# Altium footprint library Motorola Footprints.PcbLib: 408 footprints (part 26 of 26)
Each footprint in its own frame and in the unit in brackets; x right, y up, seen from the top. Pads: shape width x height; smd on the part's side, far side on the other; paste and mask are expansions set on the pad; w line width, h text height; cw(c..) or ccw(c..) is an arc to the next point about the centre after c.
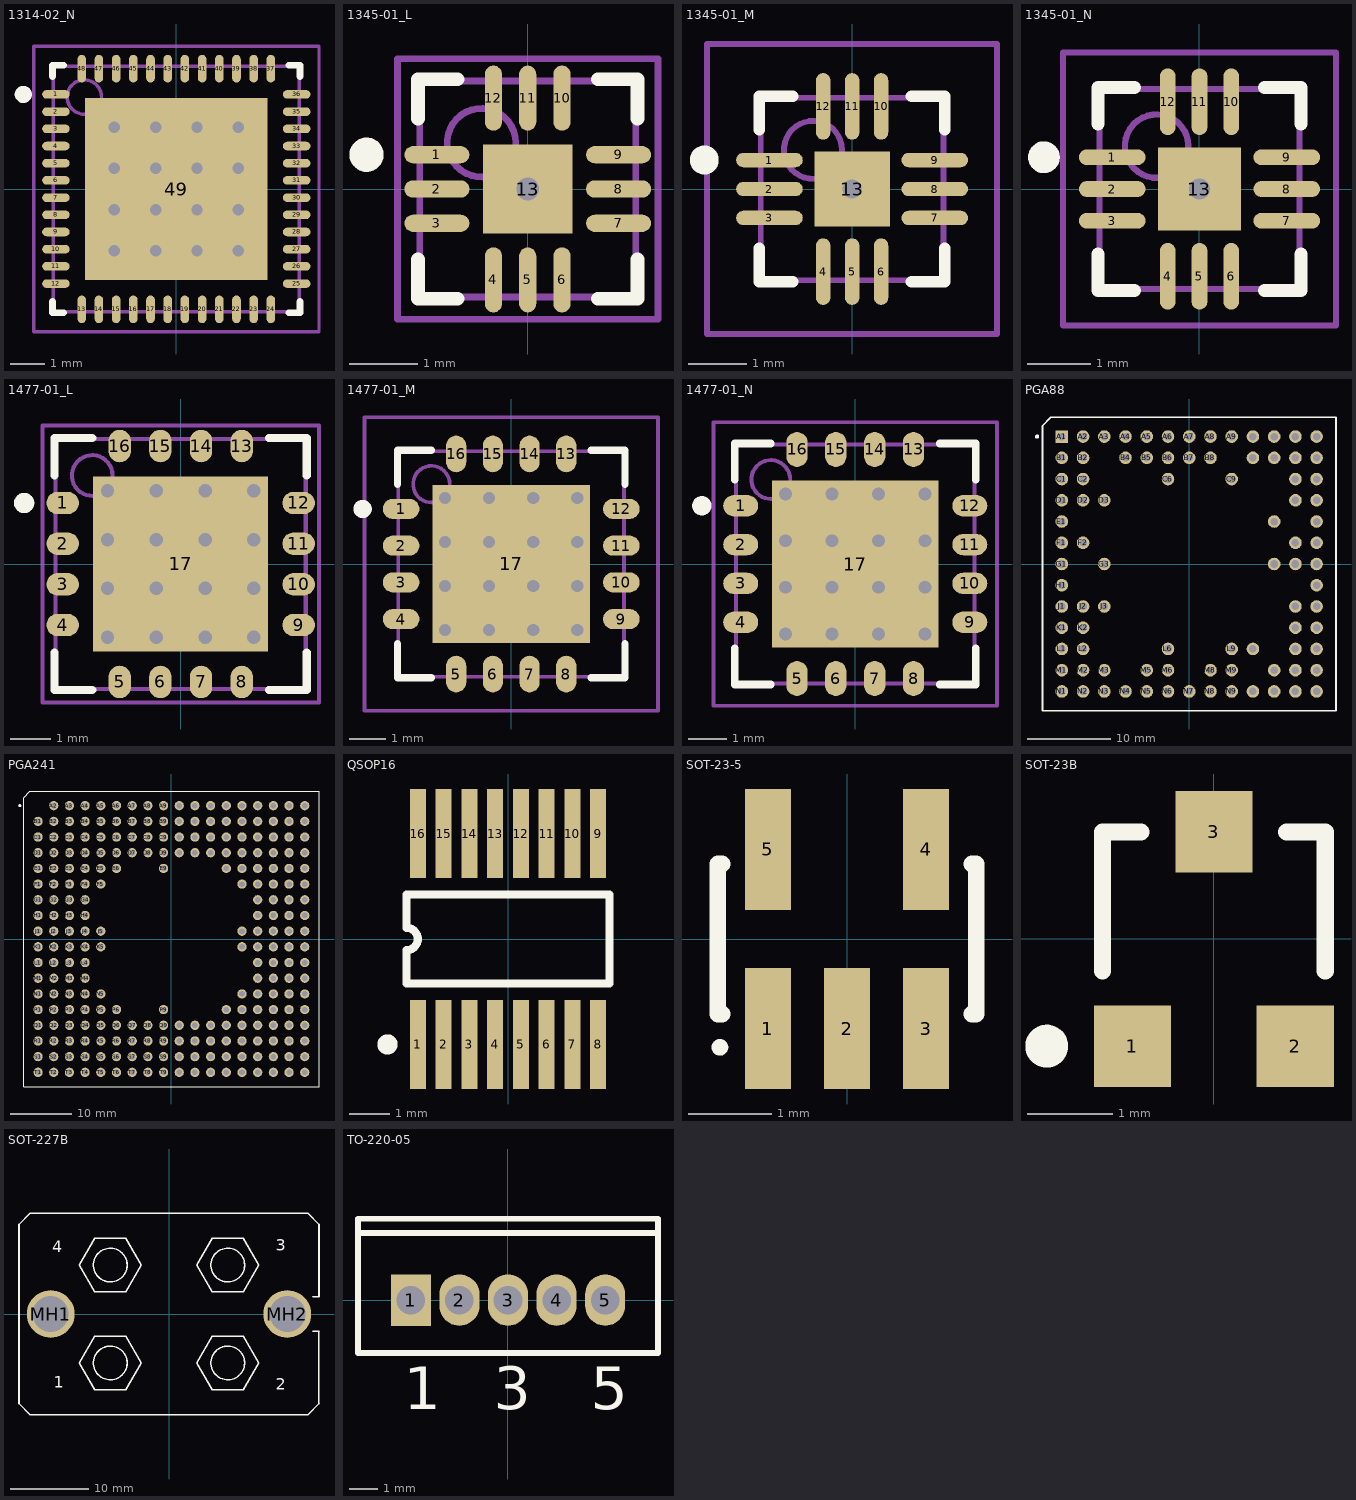
[diagram p25: the footprints below, top view; thin cyan lines are the x and y axes]

## 1314-02_N [mm] "48-Pin Quad Flat No-Lead 0.5 mm Pitch, IPC Medium Density"
height 1
pads (49):
  oval 0.8x0.25 smd: 1(-3.5,2.75) 2(-3.5,2.25) 3(-3.5,1.75) 4(-3.5,1.25) 5(-3.5,0.75) 6(-3.5,0.25) 7(-3.5,-0.25) 8(-3.5,-0.75) 9(-3.5,-1.25) 10(-3.5,-1.75) 11(-3.5,-2.25) 12(-3.5,-2.75) 25(3.5,-2.75) 26(3.5,-2.25) 27(3.5,-1.75) 28(3.5,-1.25) 29(3.5,-0.75) 30(3.5,-0.25) 31(3.5,0.25) 32(3.5,0.75) 33(3.5,1.25) 34(3.5,1.75) 35(3.5,2.25) 36(3.5,2.75)
  oval 0.25x0.8 smd: 13(-2.75,-3.5) 14(-2.25,-3.5) 15(-1.75,-3.5) 16(-1.25,-3.5) 17(-0.75,-3.5) 18(-0.25,-3.5) 19(0.25,-3.5) 20(0.75,-3.5) 21(1.25,-3.5) 22(1.75,-3.5) 23(2.25,-3.5) 24(2.75,-3.5) 37(2.75,3.5) 38(2.25,3.5) 39(1.75,3.5) 40(1.25,3.5) 41(0.75,3.5) 42(0.25,3.5) 43(-0.25,3.5) 44(-0.75,3.5) 45(-1.25,3.5) 46(-1.75,3.5) 47(-2.25,3.5) 48(-2.75,3.5)
  rect 5.3x5.3 smd: 49(0,0)
via 1.8,-1.8 diameter 0.66 hole 0.33
via 0.6,-1.8 diameter 0.66 hole 0.33
via -0.6,-1.8 diameter 0.66 hole 0.33
via -1.8,-1.8 diameter 0.66 hole 0.33
via 1.8,-0.6 diameter 0.66 hole 0.33
via 0.6,-0.6 diameter 0.66 hole 0.33
via -0.6,-0.6 diameter 0.66 hole 0.33
via -1.8,-0.6 diameter 0.66 hole 0.33
via 1.8,0.6 diameter 0.66 hole 0.33
via 0.6,0.6 diameter 0.66 hole 0.33
via -0.6,0.6 diameter 0.66 hole 0.33
via -1.8,0.6 diameter 0.66 hole 0.33
via 1.8,1.8 diameter 0.66 hole 0.33
via 0.6,1.8 diameter 0.66 hole 0.33
via -0.6,1.8 diameter 0.66 hole 0.33
via -1.8,1.8 diameter 0.66 hole 0.33
Top Overlay:
  circle w0.25: c-4.45,2.75 r0.125
  lines w0.2: -3.6,-3.275 -3.6,-3.6 -3.275,-3.6 ; -3.6,3.275 -3.6,3.6 -3.275,3.6 ; 3.275,-3.6 3.6,-3.6 3.6,-3.275 ; 3.275,3.6 3.6,3.6 3.6,3.275
Mechanical 13:
  circle w0.1: c-2.675,2.675 r0.5
  lines w0.1: -3.575,-3.575 3.575,-3.575 3.575,3.575 -3.575,3.575 -3.575,-3.575
Mechanical 15:
  lines w0.1: -0.5,0 0.5,0 ; 0,-0.5 0,0.5 ; -4.15,-4.15 4.15,-4.15 4.15,4.15 -4.15,4.15 -4.15,-4.15
3D body: height 1, standoff 0, extent -3.575,-3.575 3.575,3.575

## 1345-01_L [mm] "12-Pin Quad Flat No-Lead 0.5 mm Pitch, IPC High Density"
height 1
pads (13):
  oval 0.95x0.25 smd: 1(-1.325,0.5) 2(-1.325,0) 3(-1.325,-0.5) 7(1.325,-0.5) 8(1.325,0) 9(1.325,0.5)
  oval 0.25x0.95 smd: 4(-0.5,-1.325) 5(0,-1.325) 6(0.5,-1.325) 10(0.5,1.325) 11(0,1.325) 12(-0.5,1.325)
  rect 1.3x1.3 smd: 13(0,0)
via 0,0 diameter 0.66 hole 0.33
Top Overlay:
  circle w0.25: c-2.35,0.5 r0.125
  lines w0.2: -1.6,-1.025 -1.6,-1.6 -1.025,-1.6 ; -1.6,1.025 -1.6,1.6 -1.025,1.6 ; 1.025,-1.6 1.6,-1.6 1.6,-1.025 ; 1.025,1.6 1.6,1.6 1.6,1.025
Mechanical 13:
  circle w0.1: c-0.675,0.675 r0.5
  lines w0.1: -1.575,-1.575 1.575,-1.575 1.575,1.575 -1.575,1.575 -1.575,-1.575
Mechanical 15:
  lines w0.1: -0.5,0 0.5,0 ; 0,-0.5 0,0.5 ; -1.9,-1.9 1.9,-1.9 1.9,1.9 -1.9,1.9 -1.9,-1.9
3D body: height 1, standoff 0, extent -1.575,-1.575 1.575,1.575

## 1345-01_M [mm] "12-Pin Quad Flat No-Lead 0.5 mm Pitch, IPC Low Density"
height 1
pads (13):
  oval 1.15x0.25 smd: 1(-1.425,0.5) 2(-1.425,0) 3(-1.425,-0.5) 7(1.425,-0.5) 8(1.425,0) 9(1.425,0.5)
  oval 0.25x1.15 smd: 4(-0.5,-1.425) 5(0,-1.425) 6(0.5,-1.425) 10(0.5,1.425) 11(0,1.425) 12(-0.5,1.425)
  rect 1.3x1.3 smd: 13(0,0)
via 0,0 diameter 0.66 hole 0.33
Top Overlay:
  circle w0.25: c-2.55,0.5 r0.125
  lines w0.2: -1.6,-1.025 -1.6,-1.6 -1.025,-1.6 ; -1.6,1.025 -1.6,1.6 -1.025,1.6 ; 1.025,-1.6 1.6,-1.6 1.6,-1.025 ; 1.025,1.6 1.6,1.6 1.6,1.025
Mechanical 13:
  circle w0.1: c-0.675,0.675 r0.5
  lines w0.1: -1.575,-1.575 1.575,-1.575 1.575,1.575 -1.575,1.575 -1.575,-1.575
Mechanical 15:
  lines w0.1: -0.5,0 0.5,0 ; 0,-0.5 0,0.5 ; -2.5,-2.5 2.5,-2.5 2.5,2.5 -2.5,2.5 -2.5,-2.5
3D body: height 1, standoff 0, extent -1.575,-1.575 1.575,1.575

## 1345-01_N [mm] "12-Pin Quad Flat No-Lead 0.5 mm Pitch, IPC Medium Density"
height 1
pads (13):
  oval 1.05x0.25 smd: 1(-1.375,0.5) 2(-1.375,0) 3(-1.375,-0.5) 7(1.375,-0.5) 8(1.375,0) 9(1.375,0.5)
  oval 0.25x1.05 smd: 4(-0.5,-1.375) 5(0,-1.375) 6(0.5,-1.375) 10(0.5,1.375) 11(0,1.375) 12(-0.5,1.375)
  rect 1.3x1.3 smd: 13(0,0)
via 0,0 diameter 0.66 hole 0.33
Top Overlay:
  circle w0.25: c-2.45,0.5 r0.125
  lines w0.2: -1.6,-1.025 -1.6,-1.6 -1.025,-1.6 ; -1.6,1.025 -1.6,1.6 -1.025,1.6 ; 1.025,-1.6 1.6,-1.6 1.6,-1.025 ; 1.025,1.6 1.6,1.6 1.6,1.025
Mechanical 13:
  circle w0.1: c-0.675,0.675 r0.5
  lines w0.1: -1.575,-1.575 1.575,-1.575 1.575,1.575 -1.575,1.575 -1.575,-1.575
Mechanical 15:
  lines w0.1: -0.5,0 0.5,0 ; 0,-0.5 0,0.5 ; -2.15,-2.15 2.15,-2.15 2.15,2.15 -2.15,2.15 -2.15,-2.15
3D body: height 1, standoff 0, extent -1.575,-1.575 1.575,1.575

## 1477-01_L [mm] "16-Pin Quad Flat No-Lead 1 mm Pitch, IPC High Density"
height 2.08
pads (17):
  oval 0.8x0.55 smd: 1(-2.9,1.5) 2(-2.9,0.5) 3(-2.9,-0.5) 4(-2.9,-1.5) 9(2.9,-1.5) 10(2.9,-0.5) 11(2.9,0.5) 12(2.9,1.5)
  oval 0.55x0.8 smd: 5(-1.5,-2.9) 6(-0.5,-2.9) 7(0.5,-2.9) 8(1.5,-2.9) 13(1.5,2.9) 14(0.5,2.9) 15(-0.5,2.9) 16(-1.5,2.9)
  rect 4.3x4.3 smd: 17(0,0)
via 1.8,-1.8 diameter 0.66 hole 0.33
via 0.6,-1.8 diameter 0.66 hole 0.33
via -0.6,-1.8 diameter 0.66 hole 0.33
via -1.8,-1.8 diameter 0.66 hole 0.33
via 1.8,-0.6 diameter 0.66 hole 0.33
via 0.6,-0.6 diameter 0.66 hole 0.33
via -0.6,-0.6 diameter 0.66 hole 0.33
via -1.8,-0.6 diameter 0.66 hole 0.33
via 1.8,0.6 diameter 0.66 hole 0.33
via 0.6,0.6 diameter 0.66 hole 0.33
via -0.6,0.6 diameter 0.66 hole 0.33
via -1.8,0.6 diameter 0.66 hole 0.33
via 1.8,1.8 diameter 0.66 hole 0.33
via 0.6,1.8 diameter 0.66 hole 0.33
via -0.6,1.8 diameter 0.66 hole 0.33
via -1.8,1.8 diameter 0.66 hole 0.33
Top Overlay:
  circle w0.25: c-3.85,1.5 r0.125
  lines w0.2: -3.1,-2.175 -3.1,-3.1 -2.175,-3.1 ; -3.1,2.175 -3.1,3.1 -2.175,3.1 ; 2.175,-3.1 3.1,-3.1 3.1,-2.175 ; 2.175,3.1 3.1,3.1 3.1,2.175
Mechanical 13:
  circle w0.1: c-2.175,2.175 r0.5
  lines w0.1: -3.075,-3.075 3.075,-3.075 3.075,3.075 -3.075,3.075 -3.075,-3.075
Mechanical 15:
  lines w0.1: -0.5,0 0.5,0 ; 0,-0.5 0,0.5 ; -3.4,-3.4 3.4,-3.4 3.4,3.4 -3.4,3.4 -3.4,-3.4
3D body: height 2.08, standoff 0, extent -3.075,-3.075 3.075,3.075

## 1477-01_M [mm] "16-Pin Quad Flat No-Lead 1 mm Pitch, IPC Low Density"
height 2.08
pads (17):
  oval 1x0.55 smd: 1(-3,1.5) 2(-3,0.5) 3(-3,-0.5) 4(-3,-1.5) 9(3,-1.5) 10(3,-0.5) 11(3,0.5) 12(3,1.5)
  oval 0.55x1 smd: 5(-1.5,-3) 6(-0.5,-3) 7(0.5,-3) 8(1.5,-3) 13(1.5,3) 14(0.5,3) 15(-0.5,3) 16(-1.5,3)
  rect 4.3x4.3 smd: 17(0,0)
via -1.8,1.8 diameter 0.66 hole 0.33
via -0.6,1.8 diameter 0.66 hole 0.33
via 0.6,1.8 diameter 0.66 hole 0.33
via 1.8,1.8 diameter 0.66 hole 0.33
via -1.8,0.6 diameter 0.66 hole 0.33
via -0.6,0.6 diameter 0.66 hole 0.33
via 0.6,0.6 diameter 0.66 hole 0.33
via 1.8,0.6 diameter 0.66 hole 0.33
via -1.8,-0.6 diameter 0.66 hole 0.33
via -0.6,-0.6 diameter 0.66 hole 0.33
via 0.6,-0.6 diameter 0.66 hole 0.33
via 1.8,-0.6 diameter 0.66 hole 0.33
via -1.8,-1.8 diameter 0.66 hole 0.33
via -0.6,-1.8 diameter 0.66 hole 0.33
via 0.6,-1.8 diameter 0.66 hole 0.33
via 1.8,-1.8 diameter 0.66 hole 0.33
Top Overlay:
  circle w0.25: c-4.05,1.5 r0.125
  lines w0.2: -3.1,-2.175 -3.1,-3.1 -2.175,-3.1 ; -3.1,2.175 -3.1,3.1 -2.175,3.1 ; 2.175,-3.1 3.1,-3.1 3.1,-2.175 ; 2.175,3.1 3.1,3.1 3.1,2.175
Mechanical 13:
  circle w0.1: c-2.175,2.175 r0.5
  lines w0.1: -3.075,-3.075 -3.075,3.075 3.075,3.075 3.075,-3.075 -3.075,-3.075
Mechanical 15:
  lines w0.1: -0.5,0 0.5,0 ; 0,-0.5 0,0.5 ; -4,-4 -4,4 4,4 4,-4 -4,-4
3D body: height 2.08, standoff 0, extent -3.075,-3.075 3.075,3.075

## 1477-01_N [mm] "16-Pin Quad Flat No-Lead 1 mm Pitch, IPC Medium Density"
height 2.08
pads (17):
  oval 0.9x0.55 smd: 1(-2.95,1.5) 2(-2.95,0.5) 3(-2.95,-0.5) 4(-2.95,-1.5) 9(2.95,-1.5) 10(2.95,-0.5) 11(2.95,0.5) 12(2.95,1.5)
  oval 0.55x0.9 smd: 5(-1.5,-2.95) 6(-0.5,-2.95) 7(0.5,-2.95) 8(1.5,-2.95) 13(1.5,2.95) 14(0.5,2.95) 15(-0.5,2.95) 16(-1.5,2.95)
  rect 4.3x4.3 smd: 17(0,0)
via -1.8,1.8 diameter 0.66 hole 0.33
via -0.6,1.8 diameter 0.66 hole 0.33
via 0.6,1.8 diameter 0.66 hole 0.33
via 1.8,1.8 diameter 0.66 hole 0.33
via -1.8,0.6 diameter 0.66 hole 0.33
via -0.6,0.6 diameter 0.66 hole 0.33
via 0.6,0.6 diameter 0.66 hole 0.33
via 1.8,0.6 diameter 0.66 hole 0.33
via -1.8,-0.6 diameter 0.66 hole 0.33
via -0.6,-0.6 diameter 0.66 hole 0.33
via 0.6,-0.6 diameter 0.66 hole 0.33
via 1.8,-0.6 diameter 0.66 hole 0.33
via -1.8,-1.8 diameter 0.66 hole 0.33
via -0.6,-1.8 diameter 0.66 hole 0.33
via 0.6,-1.8 diameter 0.66 hole 0.33
via 1.8,-1.8 diameter 0.66 hole 0.33
Top Overlay:
  circle w0.25: c-3.95,1.5 r0.125
  lines w0.2: -3.1,-2.175 -3.1,-3.1 -2.175,-3.1 ; -3.1,2.175 -3.1,3.1 -2.175,3.1 ; 2.175,-3.1 3.1,-3.1 3.1,-2.175 ; 2.175,3.1 3.1,3.1 3.1,2.175
Mechanical 13:
  circle w0.1: c-2.175,2.175 r0.5
  lines w0.1: -3.075,-3.075 -3.075,3.075 3.075,3.075 3.075,-3.075 -3.075,-3.075
Mechanical 15:
  lines w0.1: -0.5,0 0.5,0 ; 0,-0.5 0,0.5 ; -3.65,-3.65 -3.65,3.65 3.65,3.65 3.65,-3.65 -3.65,-3.65
3D body: height 2.08, standoff 0, extent -3.075,-3.075 3.075,3.075

## PGA88 [mm] "88-Pin Pin Grid Array 2.54 mm Pitch"
height 4.5
pads (88):
  rect 1.5x1.5 hole 0.9: A1(-15.24,15.24)
  round 1.5 hole 0.9: A2(-12.7,15.24) A3(-10.16,15.24) A4(-7.62,15.24) A5(-5.08,15.24) A6(-2.54,15.24) A7(0,15.24) A8(2.54,15.24) A9(5.08,15.24) A10(7.62,15.24) A11(10.16,15.24) A12(12.7,15.24) A13(15.24,15.24) B1(-15.24,12.7) B2(-12.7,12.7) B4(-7.62,12.7) B5(-5.08,12.7) B6(-2.54,12.7) B7(0,12.7) B8(2.54,12.7) B10(7.62,12.7) B11(10.16,12.7) B12(12.7,12.7) B13(15.24,12.7) C1(-15.24,10.16) C2(-12.7,10.16) C6(-2.54,10.16) C9(5.08,10.16) C12(12.7,10.16) C13(15.24,10.16) D1(-15.24,7.62) D2(-12.7,7.62) D3(-10.16,7.62) D12(12.7,7.62) D13(15.24,7.62) E1(-15.24,5.08) E11(10.16,5.08) E13(15.24,5.08) F1(-15.24,2.54) F2(-12.7,2.54) F12(12.7,2.54) F13(15.24,2.54) G1(-15.24,0) G3(-10.16,0) G11(10.16,0) G12(12.7,0) G13(15.24,0) H1(-15.24,-2.54) H13(15.24,-2.54) J1(-15.24,-5.08) J2(-12.7,-5.08) J3(-10.16,-5.08) J12(12.7,-5.08) J13(15.24,-5.08) K1(-15.24,-7.62) K2(-12.7,-7.62) K12(12.7,-7.62) K13(15.24,-7.62) L1(-15.24,-10.16) L2(-12.7,-10.16) L6(-2.54,-10.16) L9(5.08,-10.16) L10(7.62,-10.16) L12(12.7,-10.16) L13(15.24,-10.16) M1(-15.24,-12.7) M2(-12.7,-12.7) M3(-10.16,-12.7) M5(-5.08,-12.7) M6(-2.54,-12.7) M8(2.54,-12.7) M9(5.08,-12.7) M11(10.16,-12.7) M12(12.7,-12.7) M13(15.24,-12.7) N1(-15.24,-15.24) N2(-12.7,-15.24) N3(-10.16,-15.24) N4(-7.62,-15.24) N5(-5.08,-15.24) N6(-2.54,-15.24) N7(0,-15.24) N8(2.54,-15.24) N9(5.08,-15.24) N10(7.62,-15.24) N11(10.16,-15.24) N12(12.7,-15.24) N13(15.24,-15.24)
Top Overlay:
  circle w0.25: c-18.2,15.24 r0.125
  lines w0.2: -17.55,-17.55 17.55,-17.55 17.55,17.55 -16.55,17.55 -17.55,16.55 -17.55,-17.55

## PGA241 [mm] "241-Pin Pin Grid Array 2.54 mm Pitch"
height 5.08
pads (241):
  round 1.5 hole 0.9: A2(-19.05,21.59) A3(-16.51,21.59) A4(-13.97,21.59) A5(-11.43,21.59) A6(-8.89,21.59) A7(-6.35,21.59) A8(-3.81,21.59) A9(-1.27,21.59) A10(1.27,21.59) A11(3.81,21.59) A12(6.35,21.59) A13(8.89,21.59) A14(11.43,21.59) A15(13.97,21.59) A16(16.51,21.59) A17(19.05,21.59) A18(21.59,21.59) B1(-21.59,19.05) B2(-19.05,19.05) B3(-16.51,19.05) B4(-13.97,19.05) B5(-11.43,19.05) B6(-8.89,19.05) B7(-6.35,19.05) B8(-3.81,19.05) B9(-1.27,19.05) B10(1.27,19.05) B11(3.81,19.05) B12(6.35,19.05) B13(8.89,19.05) B14(11.43,19.05) B15(13.97,19.05) B16(16.51,19.05) B17(19.05,19.05) B18(21.59,19.05) C1(-21.59,16.51) C2(-19.05,16.51) C3(-16.51,16.51) C4(-13.97,16.51) C5(-11.43,16.51) C6(-8.89,16.51) C7(-6.35,16.51) C8(-3.81,16.51) C9(-1.27,16.51) C10(1.27,16.51) C11(3.81,16.51) C12(6.35,16.51) C13(8.89,16.51) C14(11.43,16.51) C15(13.97,16.51) C16(16.51,16.51) C17(19.05,16.51) C18(21.59,16.51) D1(-21.59,13.97) D2(-19.05,13.97) D3(-16.51,13.97) D4(-13.97,13.97) D5(-11.43,13.97) D6(-8.89,13.97) D7(-6.35,13.97) D8(-3.81,13.97) D9(-1.27,13.97) D10(1.27,13.97) D11(3.81,13.97) D12(6.35,13.97) D13(8.89,13.97) D14(11.43,13.97) D15(13.97,13.97) D16(16.51,13.97) D17(19.05,13.97) D18(21.59,13.97) E1(-21.59,11.43) E2(-19.05,11.43) E3(-16.51,11.43) E4(-13.97,11.43) E5(-11.43,11.43) E6(-8.89,11.43) E9(-1.27,11.43) E13(8.89,11.43) E14(11.43,11.43) E15(13.97,11.43) E16(16.51,11.43) E17(19.05,11.43) E18(21.59,11.43) F1(-21.59,8.89) F2(-19.05,8.89) F3(-16.51,8.89) F4(-13.97,8.89) F5(-11.43,8.89) F14(11.43,8.89) F15(13.97,8.89) F16(16.51,8.89) F17(19.05,8.89) F18(21.59,8.89) G1(-21.59,6.35) G2(-19.05,6.35) G3(-16.51,6.35) G4(-13.97,6.35) G15(13.97,6.35) G16(16.51,6.35) G17(19.05,6.35) G18(21.59,6.35) H1(-21.59,3.81) H2(-19.05,3.81) H3(-16.51,3.81) H4(-13.97,3.81) H15(13.97,3.81) H16(16.51,3.81) H17(19.05,3.81) H18(21.59,3.81) J1(-21.59,1.27) J2(-19.05,1.27) J3(-16.51,1.27) J4(-13.97,1.27) J5(-11.43,1.27) J14(11.43,1.27) J15(13.97,1.27) J16(16.51,1.27) J17(19.05,1.27) J18(21.59,1.27) K1(-21.59,-1.27) K2(-19.05,-1.27) K3(-16.51,-1.27) K4(-13.97,-1.27) K5(-11.43,-1.27) K14(11.43,-1.27) K15(13.97,-1.27) K16(16.51,-1.27) K17(19.05,-1.27) K18(21.59,-1.27) L1(-21.59,-3.81) L2(-19.05,-3.81) L3(-16.51,-3.81) L4(-13.97,-3.81) L15(13.97,-3.81) L16(16.51,-3.81) L17(19.05,-3.81) L18(21.59,-3.81) M1(-21.59,-6.35) M2(-19.05,-6.35) M3(-16.51,-6.35) M4(-13.97,-6.35) M15(13.97,-6.35) M16(16.51,-6.35) M17(19.05,-6.35) M18(21.59,-6.35) N1(-21.59,-8.89) N2(-19.05,-8.89) N3(-16.51,-8.89) N4(-13.97,-8.89) N5(-11.43,-8.89) N14(11.43,-8.89) N15(13.97,-8.89) N16(16.51,-8.89) N17(19.05,-8.89) N18(21.59,-8.89) P1(-21.59,-11.43) P2(-19.05,-11.43) P3(-16.51,-11.43) P4(-13.97,-11.43) P5(-11.43,-11.43) P6(-8.89,-11.43) P9(-1.27,-11.43) P13(8.89,-11.43) P14(11.43,-11.43) P15(13.97,-11.43) P16(16.51,-11.43) P17(19.05,-11.43) P18(21.59,-11.43) Q1(-21.59,-13.97) Q2(-19.05,-13.97) Q3(-16.51,-13.97) Q4(-13.97,-13.97) Q5(-11.43,-13.97) Q6(-8.89,-13.97) Q7(-6.35,-13.97) Q8(-3.81,-13.97) Q9(-1.27,-13.97) Q10(1.27,-13.97) Q11(3.81,-13.97) Q12(6.35,-13.97) Q13(8.89,-13.97) Q14(11.43,-13.97) Q15(13.97,-13.97) Q16(16.51,-13.97) Q17(19.05,-13.97) Q18(21.59,-13.97) R1(-21.59,-16.51) R2(-19.05,-16.51) R3(-16.51,-16.51) R4(-13.97,-16.51) R5(-11.43,-16.51) R6(-8.89,-16.51) R7(-6.35,-16.51) R8(-3.81,-16.51) R9(-1.27,-16.51) R10(1.27,-16.51) R11(3.81,-16.51) R12(6.35,-16.51) R13(8.89,-16.51) R14(11.43,-16.51) R15(13.97,-16.51) R16(16.51,-16.51) R17(19.05,-16.51) R18(21.59,-16.51) S1(-21.59,-19.05) S2(-19.05,-19.05) S3(-16.51,-19.05) S4(-13.97,-19.05) S5(-11.43,-19.05) S6(-8.89,-19.05) S7(-6.35,-19.05) S8(-3.81,-19.05) S9(-1.27,-19.05) S10(1.27,-19.05) S11(3.81,-19.05) S12(6.35,-19.05) S13(8.89,-19.05) S14(11.43,-19.05) S15(13.97,-19.05) S16(16.51,-19.05) S17(19.05,-19.05) S18(21.59,-19.05) T1(-21.59,-21.59) T2(-19.05,-21.59) T3(-16.51,-21.59) T4(-13.97,-21.59) T5(-11.43,-21.59) T6(-8.89,-21.59) T7(-6.35,-21.59) T8(-3.81,-21.59) T9(-1.27,-21.59) T10(1.27,-21.59) T11(3.81,-21.59) T12(6.35,-21.59) T13(8.89,-21.59) T14(11.43,-21.59) T15(13.97,-21.59) T16(16.51,-21.59) T17(19.05,-21.59) T18(21.59,-21.59)
Top Overlay:
  circle w0.25: c-24.55,21.59 r0.125
  lines w0.2: -23.9,-23.9 -23.9,22.9 -22.9,23.9 23.9,23.9 23.9,-23.9 -23.9,-23.9

## QSOP16 [mm] "SSOP; 16 Leads; Body Width 3.9 mm; Pitch 0.635 mm"
height 1.76
pads (16):
  rect 0.4x2.2 smd: 1(-2.222,-2.6) 2(-1.587,-2.6) 3(-0.953,-2.6) 4(-0.318,-2.6) 5(0.318,-2.6) 6(0.953,-2.6) 7(1.587,-2.6) 8(2.222,-2.6) 9(2.222,2.6) 10(1.587,2.6) 11(0.953,2.6) 12(0.318,2.6) 13(-0.318,2.6) 14(-0.953,2.6) 15(-1.587,2.6) 16(-2.222,2.6)
Top Overlay:
  circle w0.25: c-2.973,-2.6 r0.125
  lines w0.2: -2.5,-1.1 -2.501,-0.275 ccw(c-2.5,0) -2.5,0.275 -2.5,1.1 2.5,1.1 2.5,-1.1 -2.5,-1.1

## SOT-23-5 [mm] "SOT-23/SC-74A; 5 Leads; Body 3.1 x 3.1 mm, inc. leads (LxW max)"
height 1.45
pads (5):
  rect 0.55x1.45 smd: 1(-0.95,-1.075) 2(0,-1.075) 3(0.95,-1.075) 4(0.95,1.075) 5(-0.95,1.075)
Top Overlay:
  circle w0.1: c-1.525,-1.3 r0.05
  lines w0.2: -1.5,-0.9 -1.55,-0.9 -1.55,0.9 -1.5,0.9 ; 1.5,-0.9 1.55,-0.9 1.55,0.9 1.5,0.9

## SOT-23B [mm] "SOT-23; 3 Leads; Body 3.0 x 2.6 mm, inc. leads (LxW max)"
height 1.09
pads (3):
  rect 0.9x0.95 smd: 1(-0.95,-1.25) 2(0.95,-1.25) 3(0,1.25)
Top Overlay:
  circle w0.25: c-1.95,-1.25 r0.125
  lines w0.2: -1.3,-0.375 -1.3,1.25 -0.85,1.25 ; 0.85,1.25 1.3,1.25 1.3,-0.375

## SOT-227B [mm] "SOT-227; 4 Screw Terminals, 2 Mounting Holes; Body 38.2 x 25.4 x 12.2 mm (LxWxH max)"
height 12.2
pads (2):
  round 6.1 hole 4.6: MH1(-15.1,0) MH2(15.1,0)
Top Overlay:
  circle w0.2: c-7.5,6.25 r2.15
  circle w0.2: c7.5,6.25 r2.15
  circle w0.2: c-7.5,-6.25 r2.15
  circle w0.2: c7.5,-6.25 r2.15
  lines w0.2: 18.35,-2.2 19.15,-2.2 ; 18.35,2.2 19.15,2.2 19.15,11.436 17.736,12.85 -17.736,12.85 -19.15,11.436 -19.15,-11.436 -17.736,-12.85 17.736,-12.85 19.15,-11.436 ; 19.123,-11.409 19.123,-2.2 ; -11.45,-6.25 -9.475,-9.671 -5.525,-9.671 -3.55,-6.25 -5.525,-2.829 -9.475,-2.829 -11.45,-6.25 ; -11.45,6.25 -9.475,2.829 -5.525,2.829 -3.55,6.25 -5.525,9.671 -9.475,9.671 -11.45,6.25 ; 3.55,-6.25 5.525,-9.671 9.475,-9.671 11.45,-6.25 9.475,-2.829 5.525,-2.829 3.55,-6.25 ; 3.55,6.25 5.525,2.829 9.475,2.829 11.45,6.25 9.475,9.671 5.525,9.671 3.55,6.25
  text "1" at -14.7,-9.4 h1.5
  text "2" at 13.6,-9.7 h1.5
  text "3" at 13.6,8.1 h1.5
  text "4" at -14.9,7.9 h1.5

## TO-220-05 [mm] "TO, Thru-Hole, Vertical, Heatsink Mounted; 5 In-Line Leads; Pitch 1.70 mm"
height 15.1
pads (5):
  rect 1.4x1.8 hole 1: 1(-3.4,0)
  oval 1.4x1.8 hole 1: 2(-1.7,0) 3(0,0) 4(1.7,0) 5(3.4,0)
Top Overlay:
  lines w0.2: -5.25,2.35 5.25,2.35 ; -5.25,-1.85 -5.25,2.85 5.25,2.85 5.25,-1.85 -5.25,-1.85
  text "5" at 2.9,-3.825 h1.5
  text "3" at -0.5,-3.825 h1.5
  text "1" at -3.65,-3.825 h1.5